# Altium footprint library PCB1.PcbLib: 27 footprints (part 1 of 2)
Each footprint in its own frame and in the unit in brackets; x right, y up, seen from the top. Pads: shape width x height; smd on the part's side, far side on the other; paste and mask are expansions set on the pad; w line width, h text height; cw(c..) or ccw(c..) is an arc to the next point about the centre after c.
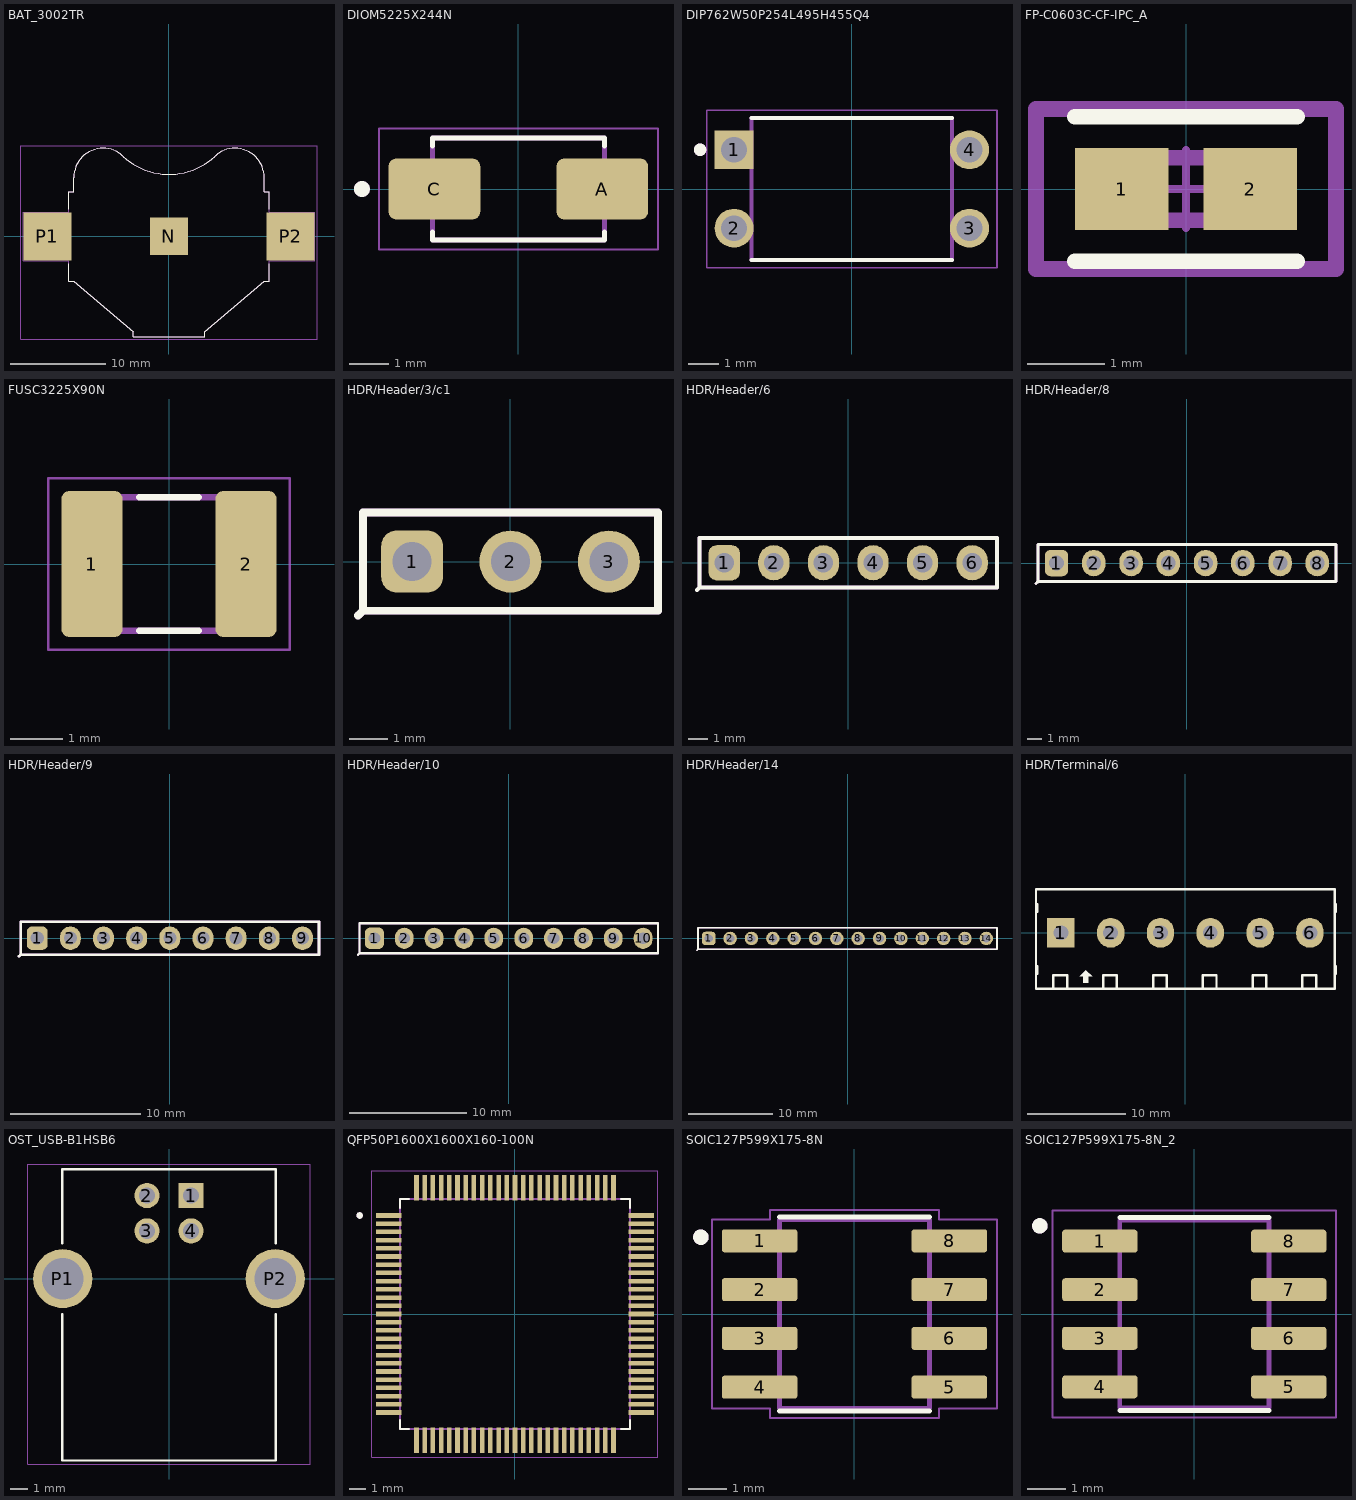
[diagram p0: the footprints below, top view; thin cyan lines are the x and y axes]

## BAT_3002TR [mm]
pads (3):
  rect 3.96x3.96 smd paste-3: N(0,0)
  rect 5.08x5.08 smd: P1(-12.825,0) P2(12.825,0)
Top Overlay:
  lines w0.127: -10.552,-2.86 -10.552,-4.703 -10.044,-4.703 -3.783,-10.062 -3.783,-10.57 3.786,-10.57 3.786,-10.062 10.047,-4.703 10.555,-4.703 10.555,-2.86 ; -10.552,2.86 -10.552,4.721 -10.044,4.721 -10.044,6.18 ; -10.044,6.197 cw(c-6.948,6.197) -6.948,9.293 ; -6.965,9.293 cw(c-6.965,6.213) -4.865,8.465 ; -4.866,8.467 ccw(c0.001,13.687) 4.869,8.467 ; 4.868,8.466 cw(c6.968,6.214) 6.968,9.293 ; 6.951,9.293 cw(c6.951,6.197) 10.047,6.197 ; 10.047,6.18 10.047,4.721 10.555,4.721 10.555,2.86
Mechanical 13:
  lines w0.127: -10.044,6.18 -10.044,4.721 -10.552,4.721 -10.552,2.536 -15.378,2.536 -15.378,-2.544 -10.552,-2.544 -10.552,-4.703 -10.044,-4.703 -3.783,-10.062 -3.783,-10.57 3.786,-10.57 3.786,-10.062 10.047,-4.703 10.555,-4.703 10.555,-2.544 15.381,-2.544 15.381,2.536 10.555,2.536 10.555,4.721 10.047,4.721 10.047,6.18 ; -10.044,6.197 cw(c-6.948,6.197) -6.948,9.293 ; -6.965,9.293 cw(c-6.965,6.213) -4.865,8.465 ; -4.866,8.467 ccw(c0.001,13.687) 4.869,8.467 ; 4.868,8.466 cw(c6.968,6.214) 6.968,9.293 ; 6.951,9.293 cw(c6.951,6.197) 10.047,6.197
Mechanical 15:
  lines w0.05: -15.628,-10.82 15.631,-10.82 15.631,9.543 -15.628,9.543 -15.628,-10.82
3D body "step_temp.STEP": height 0.25, standoff -3.71, extent -15.38,-0.508 15.38,19.355

## DIOM5225X244N [mm]
pads (2):
  rrect25% 2.33x1.55 smd: A(2.135,0) C(-2.135,0)
Top Overlay:
  circle w0.2: c-3.98,0 r0.1
  lines w0.127: -2.187,-1.095 -2.187,-1.292 2.187,-1.292 2.187,-1.095 ; -2.187,1.095 -2.187,1.292 2.187,1.292 2.187,1.095
Mechanical 13:
  circle w0.2: c-3.98,0 r0.1
  lines w0.127: -2.187,-1.292 -2.187,1.292 2.187,1.292 2.187,-1.292 -2.187,-1.292
Mechanical 15:
  lines w0.05: -3.55,-1.542 -3.55,1.542 3.55,1.542 3.55,-1.542 -3.55,-1.542
3D body "step_temp.STEP": height 2.44, standoff 0, extent -2.598,-1.292 2.598,1.292

## DIP762W50P254L495H455Q4 [mm]
pads (4):
  rect 1.26x1.26 / inner round 1.26 / far side rect 1.26x1.26 hole 0.84: 1(-3.81,1.27)
  round 1.26 hole 0.84: 2(-3.81,-1.27) 3(3.81,-1.27) 4(3.81,1.27)
Top Overlay:
  circle w0.2: c-4.91,1.27 r0.1
  lines w0.127: -3.25,-2.3 3.25,-2.3 ; -3.25,2.3 3.25,2.3
Mechanical 13:
  circle w0.2: c-4.91,1.27 r0.1
  lines w0.127: -3.25,-2.3 3.25,-2.3 3.25,2.3 -3.25,2.3 -3.25,-2.3
Mechanical 15:
  lines w0.05: -4.7,-2.55 4.7,-2.55 4.7,2.55 -4.7,2.55 -4.7,-2.55
3D body "step_temp.STEP": height 4.55, standoff -3.6, extent -3.935,-2.3 3.935,2.3

## FP-C0603C-CF-IPC_A [mil]
pads (2):
  rect 47.5x41.66 smd paste+0 mask+0: 1(-32.51,0) 2(32.51,0)
Top Overlay:
  lines w7.87: -56.26,-36.58 56.26,-36.58 ; -56.26,36.58 56.26,36.58
Top Assembly:
  lines w7.87: -75.95,-40.52 -75.95,40.52 75.95,40.52 75.95,-40.52 -75.95,-40.52
  text ".Designator" at 0,7.39 h39.37
Top Component Center:
  lines w3.94: -19.68,0 19.68,0 ; 0,-19.68 0,19.68
Top Courtyard:
  lines w7.87: -75.95,-40.52 -75.95,40.52 75.95,40.52 75.95,-40.52 -75.95,-40.52
Top 3D Body:
  lines w7.87: -31.5,-15.75 -31.5,15.75 31.5,15.75 31.5,-15.75 -31.5,-15.75
3D body "Cap_KEMET_C0603C272M5JACTU_eec.STEP": height 10, standoff 0, extent -75.95,-40.52 75.95,40.52

## FUSC3225X90N [mm]
pads (2):
  rrect25% 1.18x2.81 smd paste+0 mask+0.102: 1(-1.485,0) 2(1.485,0)
Top Overlay:
  lines w0.127: -0.575,-1.288 0.575,-1.288 ; -0.575,1.288 0.575,1.288
Mechanical 13:
  lines w0.127: -1.607,-1.288 -1.607,1.288 1.607,1.288 1.607,-1.288 -1.607,-1.288
Mechanical 15:
  lines w0.05: -2.325,-1.655 2.325,-1.655 2.325,1.655 -2.325,1.655 -2.325,-1.655
3D body "step_temp.STEP": height 0.9, standoff 0, extent -1.607,-1.288 1.607,1.288

## HDR/Header/3/c1 [mm]
pads (3):
  rrect50% 1.6x1.6 hole 1: 1(-2.54,0)
  round 1.6 hole 1: 2(0,0) 3(2.54,0)
Top Overlay:
  lines w0.203: -3.937,-1.397 -3.81,-1.27 ; -3.81,-1.27 3.81,-1.27 3.81,1.27 -3.81,1.27 -3.81,-1.27
Mechanical 1:
  lines w0.203: -3.937,-1.397 -3.81,-1.27 ; -3.81,-1.27 3.81,-1.27 3.81,1.27 -3.81,1.27 -3.81,-1.27
3D body "header-1-red.STEP": height 8.89, standoff -3.05, extent -1.27,-1.27 1.27,1.27
3D body "header-1-white.STEP": height 8.89, standoff -3.05, extent -3.81,-1.27 -1.27,1.27
3D body "header-1-black.STEP": height 8.89, standoff -3.05, extent 1.27,-1.27 3.81,1.27

## HDR/Header/6 [mm]
pads (6):
  rrect50% 1.6x1.8 hole 1: 1(-6.35,0)
  oval 1.6x1.8 hole 1: 2(-3.81,0) 3(-1.27,0) 4(1.27,0) 5(3.81,0) 6(6.35,0)
Top Overlay:
  lines w0.203: -7.747,-1.397 -7.62,-1.27 ; -7.62,-1.27 -7.62,1.27 7.62,1.27 7.62,-1.27 -7.62,-1.27
Mechanical 1:
  lines w0.203: -7.747,-1.397 -7.62,-1.27 ; -7.62,-1.27 -7.62,1.27 7.62,1.27 7.62,-1.27 -7.62,-1.27
3D body "Samtec Header 6pin 2.54mm.STEP": height 8.38, standoff -2.54, extent -7.62,-1.27 7.62,1.27

## HDR/Header/8 [mm]
pads (8):
  rrect50% 1.6x1.8 hole 1: 1(-8.89,0)
  oval 1.6x1.8 hole 1: 2(-6.35,0) 3(-3.81,0) 4(-1.27,0) 5(1.27,0) 6(3.81,0) 7(6.35,0) 8(8.89,0)
Top Overlay:
  lines w0.203: -10.287,-1.397 -10.16,-1.27 ; -10.16,-1.27 10.16,-1.27 10.16,1.27 -10.16,1.27 -10.16,-1.27
Mechanical 1:
  lines w0.203: -10.287,-1.397 -10.16,-1.27 ; -10.16,-1.27 10.16,-1.27 10.16,1.27 -10.16,1.27 -10.16,-1.27
3D body "Samtec Header 4pin 2.54mm.STEP": height 8.89, standoff -2.03, extent 0,-1.27 10.16,1.27
3D body "Samtec Header 4pin 2.54mm.STEP": height 8.89, standoff -2.03, extent -10.16,-1.27 0,1.27

## HDR/Header/9 [mm]
pads (9):
  rrect50% 1.6x1.8 hole 1: 1(-10.16,0)
  oval 1.6x1.8 hole 1: 2(-7.62,0) 3(-5.08,0) 4(-2.54,0) 5(0,0) 6(2.54,0) 7(5.08,0) 8(7.62,0) 9(10.16,0)
Top Overlay:
  lines w0.203: -11.557,-1.397 -11.43,-1.27 ; -11.43,-1.27 11.43,-1.27 11.43,1.27 -11.43,1.27 -11.43,-1.27
Mechanical 1:
  lines w0.203: -11.557,-1.397 -11.43,-1.27 ; -11.43,-1.27 11.43,-1.27 11.43,1.27 -11.43,1.27 -11.43,-1.27
3D body "Samtec Header 3pin 2.54mm.STEP": height 8.89, standoff -2.03, extent -11.43,-1.27 -3.81,1.27
3D body "Samtec Header 3pin 2.54mm.STEP": height 8.89, standoff -2.03, extent -3.81,-1.27 3.81,1.27
3D body "Samtec Header 3pin 2.54mm.STEP": height 8.89, standoff -2.03, extent 3.81,-1.27 11.43,1.27

## HDR/Header/10 [mm]
pads (10):
  rrect50% 1.6x1.8 hole 1: 1(-11.43,0)
  oval 1.6x1.8 hole 1: 2(-8.89,0) 3(-6.35,0) 4(-3.81,0) 5(-1.27,0) 6(1.27,0) 7(3.81,0) 8(6.35,0) 9(8.89,0) 10(11.43,0)
Top Overlay:
  lines w0.203: -12.827,-1.397 -12.7,-1.27 ; -12.7,-1.27 -12.67,-1.27 12.7,-1.27 12.7,1.27 -12.7,1.27 -12.7,-1.27
Mechanical 1:
  lines w0.203: -12.827,-1.397 -12.7,-1.27 ; -12.7,-1.27 -12.67,-1.27 12.7,-1.27 12.7,1.27 -12.7,1.27 -12.7,-1.27
3D body "Samtec Header 3pin 2.54mm.STEP": height 8.89, standoff -2.03, extent 5.08,-1.27 12.7,1.27
3D body "Samtec Header 2pin 2.54mm.STEP": height 8.89, standoff -2.03, extent 0,-1.27 5.08,1.27
3D body "Samtec Header 3pin 2.54mm.STEP": height 8.89, standoff -2.03, extent -7.62,-1.27 0,1.27
3D body "Samtec Header 2pin 2.54mm.STEP": height 8.89, standoff -2.03, extent -12.7,-1.27 -7.62,1.27

## HDR/Header/14 [mm]
pads (14):
  rrect50% 1.6x1.6 hole 1: 1(-16.51,0)
  round 1.6 hole 1: 2(-13.97,0) 3(-11.43,0) 4(-8.89,0) 5(-6.35,0) 6(-3.81,0) 7(-1.27,0) 8(1.27,0) 9(3.81,0) 10(6.35,0) 11(8.89,0) 12(11.43,0) 13(13.97,0) 14(16.51,0)
Top Overlay:
  lines w0.203: -17.907,-1.397 -17.78,-1.27 ; -17.78,-1.27 17.78,-1.27 17.78,1.27 -17.78,1.27 -17.78,-1.27
Mechanical 1:
  lines w0.203: -17.907,-1.397 -17.78,-1.27 ; -17.78,-1.27 -17.78,1.27 17.78,1.27 17.78,-1.27 -17.78,-1.27
3D body "Samtec Header 2pin 2.54mm.STEP": height 8.89, standoff -2.03, extent 7.62,-1.27 12.7,1.27
3D body "Samtec Header 3pin 2.54mm.STEP": height 8.89, standoff -2.03, extent 0,-1.27 7.62,1.27
3D body "Samtec Header 2pin 2.54mm.STEP": height 8.89, standoff -2.03, extent -5.08,-1.27 0,1.27
3D body "Samtec Header 3pin 2.54mm.STEP": height 8.89, standoff -2.03, extent -12.7,-1.27 -5.08,1.27
3D body "Samtec Header 2pin 2.54mm.STEP": height 8.89, standoff -2.03, extent -17.78,-1.27 -12.7,1.27
3D body "Samtec Header 2pin 2.54mm.STEP": height 8.89, standoff -2.03, extent 12.7,-1.27 17.78,1.27

## HDR/Terminal/6 [mil]
pads (6):
  rect 110x120 hole 60: 1(-500,0)
  oval 110x120 hole 60: 2(-300,0) 3(-100,0) 4(100,0) 5(300,0) 6(500,0)
Top Overlay:
  region: -400,-150 -425,-175 -410,-175 -410,-200 -390,-200 -390,-175 -375,-175
  lines w10: -595,-165 -595,-135 ; -595,85 -595,115 ; -530,-225 -530,-170 -475,-170 -475,-225 ; -330,-225 -330,-170 -275,-170 -275,-225 ; -130,-225 -130,-170 -75,-170 -75,-225 ; 70,-225 70,-170 125,-170 125,-225 ; 270,-225 270,-170 325,-170 325,-225 ; 470,-225 470,-170 525,-170 525,-225 ; 605,-165 605,-135 ; 605,85 605,115 ; -600,-225 600,-225 600,175 -600,175 -600,-225
3D body "13989.stp": height 559.05, standoff -137.8, extent -629.17,-217.91 -200,167.91
3D body "13989.stp": height 559.05, standoff -137.8, extent -229.17,-217.91 200,167.91
3D body "13989.stp": height 559.05, standoff -137.8, extent 170.83,-217.91 600,167.91

## OST_USB-B1HSB6 [mm]
pads (6):
  rect 1.428x1.428 / inner round 1.428 / far side rect 1.428x1.428 hole 0.92: 1(1.25,4.71)
  round 1.428 hole 0.92: 2(-1.25,4.71) 3(-1.25,2.71) 4(1.25,2.71)
  round 3.346 hole 2.33: P1(-6.02,0) P2(6.02,0)
Top Overlay:
  lines w0.127: -6.05,-2 -6.05,-10.3 6.05,-10.3 6.05,-2 ; -6.05,2 -6.05,6.2 6.05,6.2 6.05,2
Mechanical 15:
  lines w0.05: -8,-10.5 8,-10.5 8,6.5 -8,6.5 -8,-10.5
3D body "step_temp.STEP": height 10.9, standoff -3.6, extent -7.42,-8.25 7.42,8.25

## QFP50P1600X1600X160-100N [mm]
pads (100):
  rect 1.56x0.28 smd: 1(-7.68,6) 2(-7.68,5.5) 3(-7.68,5) 4(-7.68,4.5) 5(-7.68,4) 6(-7.68,3.5) 7(-7.68,3) 8(-7.68,2.5) 9(-7.68,2) 10(-7.68,1.5) 11(-7.68,1) 12(-7.68,0.5) 13(-7.68,0) 14(-7.68,-0.5) 15(-7.68,-1) 16(-7.68,-1.5) 17(-7.68,-2) 18(-7.68,-2.5) 19(-7.68,-3) 20(-7.68,-3.5) 21(-7.68,-4) 22(-7.68,-4.5) 23(-7.68,-5) 24(-7.68,-5.5) 25(-7.68,-6) 51(7.68,-6) 52(7.68,-5.5) 53(7.68,-5) 54(7.68,-4.5) 55(7.68,-4) 56(7.68,-3.5) 57(7.68,-3) 58(7.68,-2.5) 59(7.68,-2) 60(7.68,-1.5) 61(7.68,-1) 62(7.68,-0.5) 63(7.68,0) 64(7.68,0.5) 65(7.68,1) 66(7.68,1.5) 67(7.68,2) 68(7.68,2.5) 69(7.68,3) 70(7.68,3.5) 71(7.68,4) 72(7.68,4.5) 73(7.68,5) 74(7.68,5.5) 75(7.68,6)
  rect 0.28x1.56 smd: 26(-6,-7.68) 27(-5.5,-7.68) 28(-5,-7.68) 29(-4.5,-7.68) 30(-4,-7.68) 31(-3.5,-7.68) 32(-3,-7.68) 33(-2.5,-7.68) 34(-2,-7.68) 35(-1.5,-7.68) 36(-1,-7.68) 37(-0.5,-7.68) 38(0,-7.68) 39(0.5,-7.68) 40(1,-7.68) 41(1.5,-7.68) 42(2,-7.68) 43(2.5,-7.68) 44(3,-7.68) 45(3.5,-7.68) 46(4,-7.68) 47(4.5,-7.68) 48(5,-7.68) 49(5.5,-7.68) 50(6,-7.68) 76(6,7.68) 77(5.5,7.68) 78(5,7.68) 79(4.5,7.68) 80(4,7.68) 81(3.5,7.68) 82(3,7.68) 83(2.5,7.68) 84(2,7.68) 85(1.5,7.68) 86(1,7.68) 87(0.5,7.68) 88(0,7.68) 89(-0.5,7.68) 90(-1,7.68) 91(-1.5,7.68) 92(-2,7.68) 93(-2.5,7.68) 94(-3,7.68) 95(-3.5,7.68) 96(-4,7.68) 97(-4.5,7.68) 98(-5,7.68) 99(-5.5,7.68) 100(-6,7.68)
Top Overlay:
  circle w0.2: c-9.46,6 r0.1
  lines w0.127: -7,-6.46 -7,-7 -6.46,-7 ; -7,6.46 -7,7 -6.46,7 ; 6.46,-7 7,-7 7,-6.46 ; 6.46,7 7,7 7,6.46
Mechanical 13:
  circle w0.2: c-9.46,6 r0.1
  lines w0.127: -7,-7 7,-7 7,7 -7,7 -7,-7
Mechanical 15:
  lines w0.05: -8.71,-8.71 -8.71,8.71 8.71,8.71 8.71,-8.71 -8.71,-8.71
3D body "step_temp.STEP": height 1.6, standoff 0, extent -8,-8 8,8

## SOIC127P599X175-8N [mm]
pads (8):
  rrect25% 1.97x0.6 smd paste+0 mask+0.102: 1(-2.47,1.905) 2(-2.47,0.635) 3(-2.47,-0.635) 4(-2.47,-1.905) 5(2.47,-1.905) 6(2.47,-0.635) 7(2.47,0.635) 8(2.47,1.905)
Top Overlay:
  circle w0.2: c-4,2 r0.1
  lines w0.127: -1.95,-2.525 1.95,-2.525 ; -1.95,2.525 1.95,2.525
Mechanical 13:
  circle w0.2: c-4,2 r0.1
  lines w0.127: -1.95,-2.453 1.95,-2.453 1.95,2.453 -1.95,2.453 -1.95,-2.453
Mechanical 15:
  lines w0.05: -3.71,-2.46 -2.2,-2.46 -2.2,-2.71 2.2,-2.71 2.2,-2.46 3.71,-2.46 3.71,2.46 2.2,2.46 2.2,2.71 -2.2,2.71 -2.2,2.46 -3.71,2.46 -3.71,-2.46
3D body "step_temp.STEP": height 1.75, standoff 0, extent -2.995,-2.452 2.995,2.452

## SOIC127P599X175-8N_2 [mm]
pads (8):
  rrect25% 1.97x0.6 smd paste+0 mask+0.102: 1(-2.47,1.905) 2(-2.47,0.635) 3(-2.47,-0.635) 4(-2.47,-1.905) 5(2.47,-1.905) 6(2.47,-0.635) 7(2.47,0.635) 8(2.47,1.905)
Top Overlay:
  circle w0.2: c-4.04,2.305 r0.1
  lines w0.127: -1.95,-2.525 1.95,-2.525 ; -1.95,2.525 1.95,2.525
Mechanical 13:
  circle w0.2: c-4.04,2.305 r0.1
  lines w0.127: -1.95,-2.452 -1.95,2.452 1.95,2.452 1.95,-2.452 -1.95,-2.452
Mechanical 15:
  lines w0.05: -3.705,-2.702 -3.705,2.702 3.705,2.702 3.705,-2.702 -3.705,-2.702
3D body "step_temp.STEP": height 1.75, standoff 0, extent -2.995,-2.452 2.995,2.452